# EAGLE library part 612014235221 (library Wire-to-Board (rev18a))
WR-BHD 2.54mm Male Anged Box Header High Temperature, 14 Pins=>Code : Con_WTB_BHD_2.54_Male_THT_RS_612014235221 <http://katalog.we-online.de/media/thumbs2/eican/thb_Con_WTB_BHD_2.54_Male_THT_RS_6120xx235221_pf2.jpg> Details see: http://katalog.we-online.de/en/em/612_0xx_235_221 Created 2014-06-05, Karrer Zheng 2014 (C) Würth Elektronik
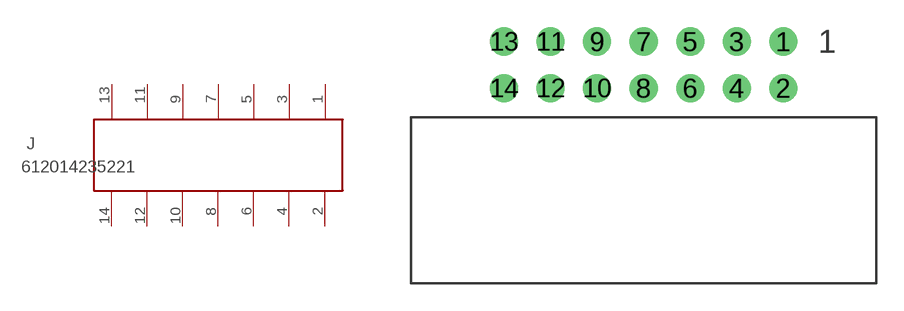
[diagram p138: symbol with the pads of 612014235221; footprint 612014235221]

Designator prefix J

## 612014235221  [612014235221]
1  14  pas
2  13  pas
3  12  pas
4  11  pas
5  10  pas
6  9  pas
7  8  pas
8  7  pas
9  6  pas
10  5  pas
11  4  pas
12  3  pas
13  2  pas
14  1  pas

## Footprint 612014235221 (pad centres in mm)
WR-BHD 2.54mm Male Angled Box Header High Temperature, 14 Pins
drill 1.02: 1 7.62,1.27; 2 7.62,-1.27; 3 5.08,1.27; 4 5.08,-1.27; 5 2.54,1.27; 6 2.54,-1.27; 7 0,1.27; 8 0,-1.27; 9 -2.54,1.27; 10 -2.54,-1.27; 11 -5.08,1.27; 12 -5.08,-1.27; 13 -7.62,1.27; 14 -7.62,-1.27